# EAGLE library part 3X18650 (library Battery)
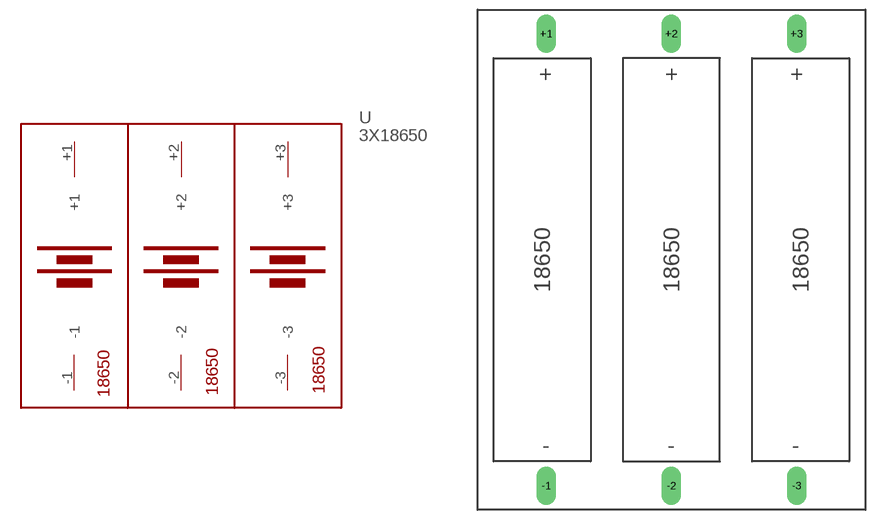
[diagram p0: symbol with the pads of CB-18650-PC6; footprint CB-18650-PC6]

Designator prefix -

## 3X18650  [CB-18650-PC6]
+1  +1
+2  +2
+3  +3
-1  -1
-2  -2
-3  -3

## Footprint CB-18650-PC6 (pad centres in mm)
drill 1.778 pad 3.048 long: +1 -19.685,35.56; +2 0,35.56; +3 19.685,35.56; -1 -19.685,-35.56; -2 0,-35.56; -3 19.685,-35.56